# Altium schematic symbol library INA2180A1IDGKR.SchLib: 2 symbols
Pins are listed as number, name and electrical type; pins without a type are passive.

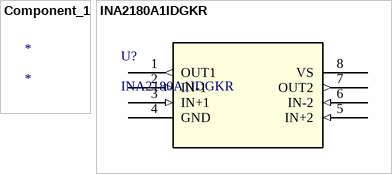
[diagram p0: symbols Component_1 to INA2180A1IDGKR]

## Component_1
designator *

## INA2180A1IDGKR
designator U?
No Description Available; Mfr_Name: Texas Instruments; Copyright: Copyright (C) 2021 Ultra Librarian. All rights reserved.; Manufacturer_Part_Number: INA2180A1IDGKR; RefDes: RefDes; Type: DEV
footprint DGK8_TEX
pins: 1 OUT1 (out), 2 IN-1 (in), 3 IN+1 (in), 4 GND (power), 5 IN+2 (in), 6 IN-2 (in), 7 OUT2 (out), 8 VS (power)